# Altium footprint library dolphi_emblab.PcbLib: 125 footprints (part 2 of 8)
Each footprint in its own frame and in the unit in brackets; x right, y up, seen from the top. Pads: shape width x height; smd on the part's side, far side on the other; paste and mask are expansions set on the pad; w line width, h text height; cw(c..) or ccw(c..) is an arc to the next point about the centre after c.
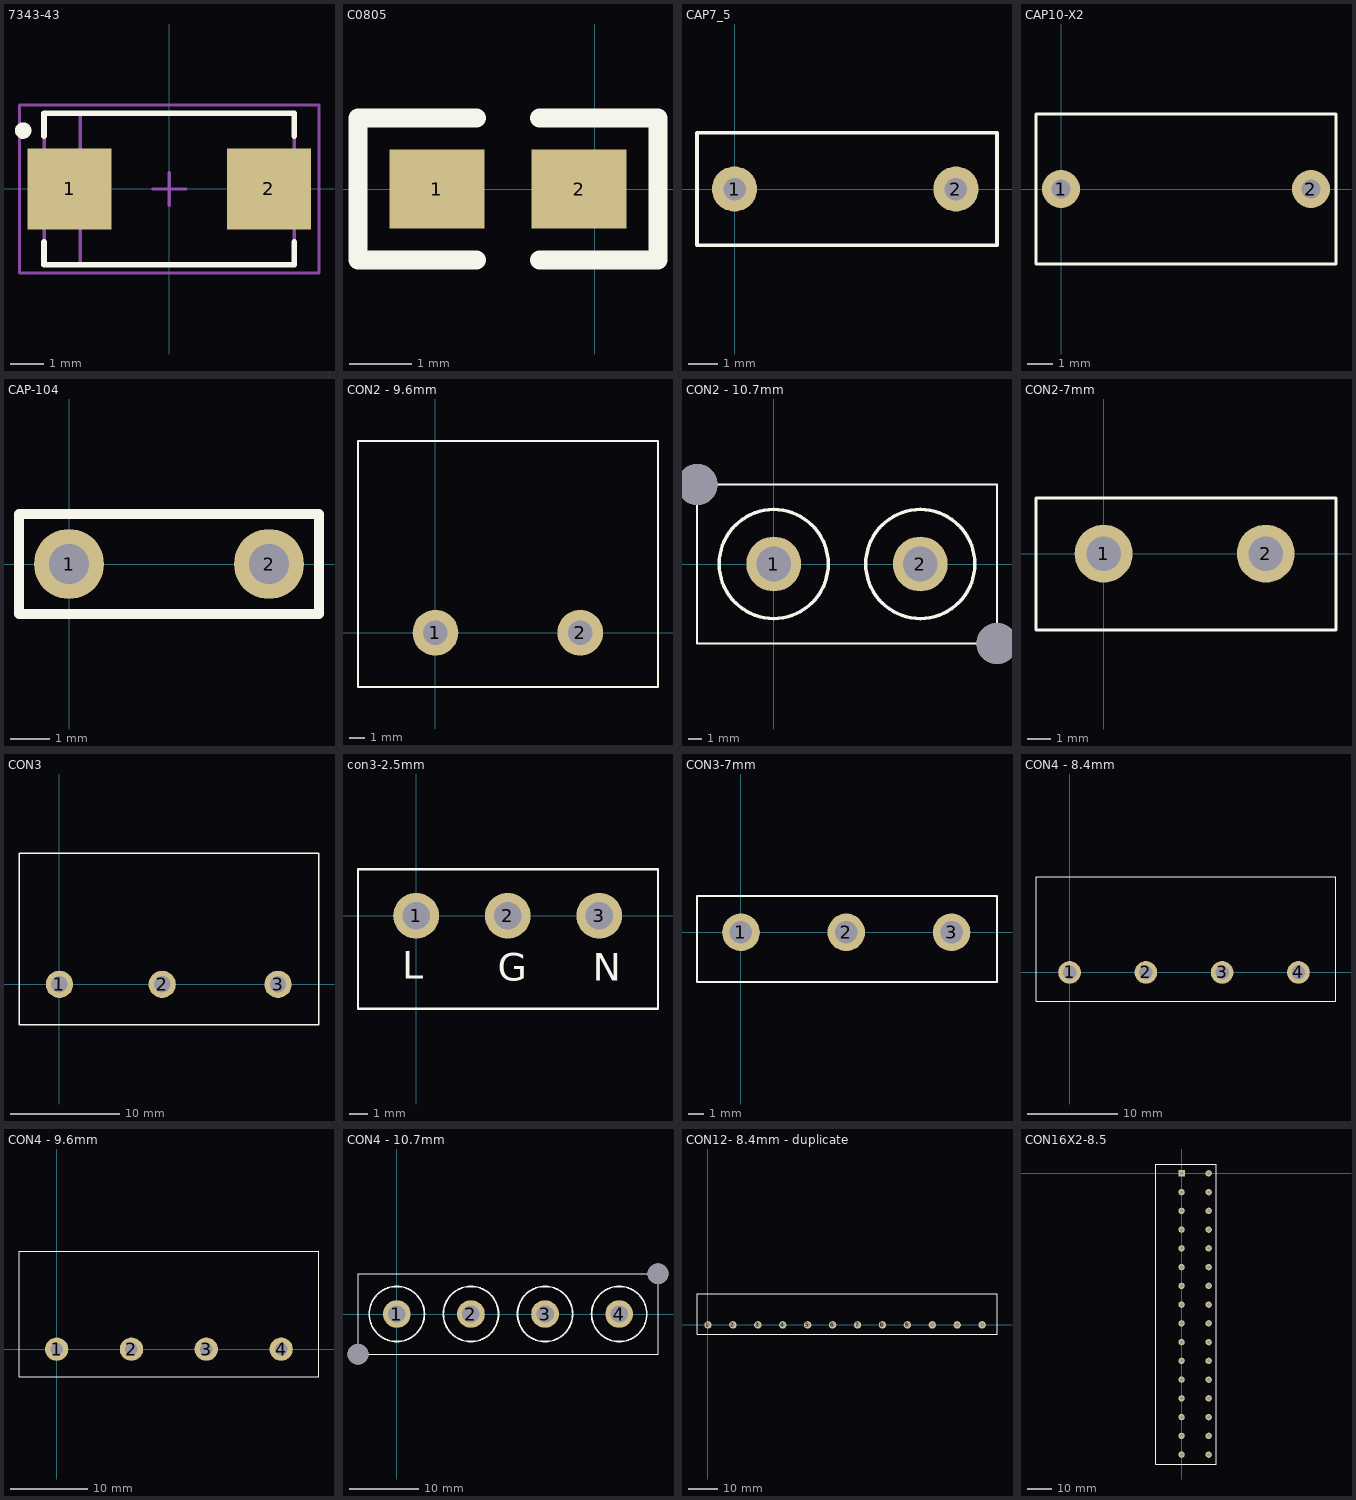
[diagram p1: the footprints below, top view; thin cyan lines are the x and y axes]

## 7343-43 [mm] "Medium density IPC based on Kemet T495 series"
height 4.3
pads (2):
  rect 2.55x2.45 smd: 1(-3.025,0) 2(3.025,0)
Top Overlay:
  circle w0.25: c-4.439,1.775 r0.125
  lines w0.178: -3.8,-1.614 -3.8,-2.3 3.8,-2.3 3.8,-1.614 ; -3.8,1.614 -3.8,2.3 3.8,2.3 3.8,1.614
Mechanical 13:
  lines w0.1: -2.7,-2.3 -2.7,2.3 ; -3.8,-2.3 3.8,-2.3 3.8,2.3 -3.8,2.3 -3.8,-2.3
Mechanical 15:
  lines w0.1: -0.5,0 0.5,0 ; 0,-0.5 0,0.5 ; -4.55,-2.55 4.55,-2.55 4.55,2.55 -4.55,2.55 -4.55,-2.55
3D body: height 4.3, standoff 0, extent -3.8,-2.3 3.8,2.3
3D body: height 4.3, standoff 4.3, extent -3.799,-2.299 -2.701,2.299

## C0805 [mil]
height 39.37
pads (2):
  rect 60x50 smd: 1(-100,0) 2(-10,0)
Top Overlay:
  lines w12: -75,-45 -150,-45 -150,45 -75,45 ; -35,-45 40,-45 40,45 -35,45

## CAP7_5 [mil] "高压陶瓷Y安规电容220pF/400V/2KV"
pads (2):
  round 60 hole 30: 1(0,0) 2(295.28,0)
Top Overlay:
  lines w5: -50,-75 350,-75 350,75 -50,75 -50,-75

## CAP10-X2 [mil] "安规电容0.1uF/275V"
height 472.44
pads (2):
  round 60 hole 30: 1(0,0) 2(393.7,0)
Top Overlay:
  lines w5: -39.37,-118.11 -39.37,118.11 433.07,118.11 433.07,-118.11 -39.37,-118.11

## CAP-104 [mil] "0.1uF瓷片电容"
pads (2):
  round 70 hole 40: 1(0,0) 2(200,0)
Top Overlay:
  lines w10: -50,-50 -50,50 250,50 250,-50 -50,-50

## CON2 - 9.6mm [mm] "2脚接线端子25A"
pads (2):
  round 3 hole 1.6: 1(0,0) 2(9.5,0)
Top Overlay:
  lines w0.127: -5.08,-3.556 14.605,-3.556 14.605,12.573 -5.08,12.573 -5.08,-3.556

## CON2 - 10.7mm [mm] "2脚接线端子 焊铜柱"
pads (2):
  round 4 hole 2.52: 1(0,0) 2(10.7,0)
via -5.6,5.8 diameter 3 hole 3
via 16.3,-5.8 diameter 3 hole 3
Top Overlay:
  circle w0.254: c10.7,0 r3.98
  circle w0.254: c0,0 r3.98
  lines w0.127: -5.6,-5.8 16.3,-5.8 16.3,5.8 -5.6,5.8 -5.6,-5.8

## CON2-7mm [mm] "二头接线封装，直接把线焊上去用，没有端子"
pads (2):
  round 2.5 hole 1.5: 1(0,0) 2(7,0)
Top Overlay:
  lines w0.127: -2.921,-3.302 -2.921,2.413 10.033,2.413 10.033,-3.302 -2.921,-3.302

## CON3 [mm]
pads (3):
  round 2.5 hole 1.5: 1(0,0) 2(9.4,0) 3(20,0)
Top Overlay:
  lines w0.127: -3.7,-3.7 23.749,-3.7 ; -3.7,-3.683 -3.7,12 23.74,12 ; 23.749,-3.683 23.749,12

## con3-2.5mm [mm] "220V交流电接口"
pads (3):
  round 2.5 hole 1.5: 1(0,0) 2(5,0) 3(10,0)
Top Overlay:
  lines w0.127: -3.175,-5.08 -3.175,2.54 13.208,2.54 13.208,-5.08 -3.175,-5.08
  text "L" at -0.762,-3.429 h1.52
  text "G" at 4.445,-3.556 h1.52
  text "N" at 9.652,-3.556 h1.52

## CON3-7mm [mm] "三头接线封装，直接把线焊上去用，没有端子"
pads (3):
  round 2.5 hole 1.5: 1(0,0) 2(7,0) 3(14,0)
Top Overlay:
  lines w0.127: -2.921,-3.302 17.018,-3.302 17.018,2.413 -2.921,2.413 -2.921,-3.302

## CON4 - 8.4mm [mm] "4脚接线端子10A"
pads (4):
  round 2.5 hole 1.5: 1(0,0) 2(8.4,0) 3(16.8,0) 4(25.2,0)
Top Overlay:
  lines w0.127: -3.7,-3.175 -3.7,10.541 29.337,10.541 29.337,-3.175 -3.7,-3.175

## CON4 - 9.6mm [mm] "4脚接线端子25A"
pads (4):
  round 3 hole 1.6: 1(0,0) 2(9.6,0) 3(19.2,0) 4(28.8,0)
Top Overlay:
  lines w0.127: -4.826,-3.556 -4.826,12.573 33.655,12.573 33.655,-3.556 -4.826,-3.556

## CON4 - 10.7mm [mm] "4脚接线端子 焊铜柱"
pads (4):
  round 4 hole 2.52: 1(0,0) 2(10.7,0) 3(21.4,0) 4(32.1,0)
via -5.6,-5.8 diameter 3 hole 3
via 37.7,5.8 diameter 3 hole 3
Top Overlay:
  circle w0.254: c32.1,0 r3.98
  circle w0.254: c21.4,0 r3.98
  circle w0.254: c10.7,0 r3.98
  circle w0.254: c0,0 r3.98
  lines w0.127: -5.6,-5.8 37.7,-5.8 37.7,5.8 -5.6,5.8 -5.6,-5.8

## CON12- 8.4mm - duplicate [mm] "12脚接线端子10A"
pads (12):
  round 2.5 hole 1.5: 1(0,0) 2(8.4,0) 3(16.8,0) 4(25.2,0) 5(33.6,0) 6(42,0) 7(50.4,0) 8(58.8,0) 9(67.2,0) 10(75.6,0) 11(84,0) 12(92.4,0)
Top Overlay:
  lines w0.127: -3.7,-3.175 97.409,-3.175 97.409,10.541 -3.7,10.541 -3.7,-3.175

## CON16X2-8.5 [mm]
pads (32):
  rect 2.6x2.6 hole 1.4: 1(0,0)
  round 2.6 hole 1.4: 2(11,0) 3(0,-7.62) 4(11,-7.62) 5(0,-15.24) 6(11,-15.24) 7(0,-22.86) 8(11,-22.86) 9(0,-30.48) 10(11,-30.48) 11(0,-38.1) 12(11,-38.1) 13(0,-45.72) 14(11,-45.72) 15(0,-53.34) 16(11,-53.34) 17(0,-60.96) 18(11,-60.96) 19(0,-68.58) 20(11,-68.58) 21(0,-76.2) 22(11,-76.2) 23(0,-83.82) 24(11,-83.82) 25(0,-91.44) 26(11,-91.44) 27(0,-99.06) 28(11,-99.06) 29(0,-106.68) 30(11,-106.68) 31(0,-114.3) 32(11,-114.3)
Top Overlay:
  lines w0.254: -10.4,-118.11 14,-118.11 14,3.81 -10.4,3.81 -10.4,-118.11